# Altium footprint library QFN-56(7.0X7.0).PcbLib: 1 footprints
Each footprint in its own frame and in the unit in brackets; x right, y up, seen from the top. Pads: shape width x height; smd on the part's side, far side on the other; paste and mask are expansions set on the pad; w line width, h text height; cw(c..) or ccw(c..) is an arc to the next point about the centre after c.
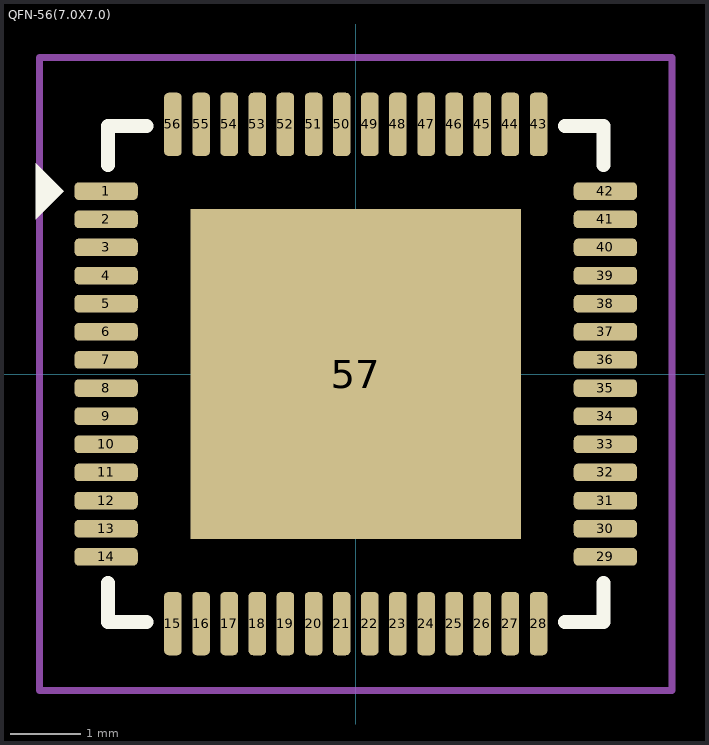
[diagram p0: the footprint, top view; thin cyan lines are the x and y axes]

## QFN-56(7.0X7.0) [mm]
pads (57):
  rrect50% 0.9x0.25 smd: 1(-3.55,2.6) 2(-3.55,2.2) 3(-3.55,1.8) 4(-3.55,1.4) 5(-3.55,1) 6(-3.55,0.6) 7(-3.55,0.2) 8(-3.55,-0.2) 9(-3.55,-0.6) 10(-3.55,-1) 11(-3.55,-1.4) 12(-3.55,-1.8) 13(-3.55,-2.2) 14(-3.55,-2.6) 29(3.55,-2.6) 30(3.55,-2.2) 31(3.55,-1.8) 32(3.55,-1.4) 33(3.55,-1) 34(3.55,-0.6) 35(3.55,-0.2) 36(3.55,0.2) 37(3.55,0.6) 38(3.55,1) 39(3.55,1.4) 40(3.55,1.8) 41(3.55,2.2) 42(3.55,2.6)
  rrect50% 0.25x0.9 smd: 15(-2.6,-3.55) 16(-2.2,-3.55) 17(-1.8,-3.55) 18(-1.4,-3.55) 19(-1,-3.55) 20(-0.6,-3.55) 21(-0.2,-3.55) 22(0.2,-3.55) 23(0.6,-3.55) 24(1,-3.55) 25(1.4,-3.55) 26(1.8,-3.55) 27(2.2,-3.55) 28(2.6,-3.55) 43(2.6,3.55) 44(2.2,3.55) 45(1.8,3.55) 46(1.4,3.55) 47(1,3.55) 48(0.6,3.55) 49(0.2,3.55) 50(-0.2,3.55) 51(-0.6,3.55) 52(-1,3.55) 53(-1.4,3.55) 54(-1.8,3.55) 55(-2.2,3.55) 56(-2.6,3.55)
  rect 4.7x4.7 smd paste-5: 57(0,0)
Top Overlay:
  region: -4.55,2.2 -4.55,3 -4.15,2.6
  lines w0.2: -3.525,-2.975 -3.525,-3.525 -2.975,-3.525 ; -3.525,2.975 -3.525,3.525 -2.975,3.525 ; 2.975,-3.525 3.525,-3.525 3.525,-2.975 ; 2.975,3.525 3.525,3.525 3.525,2.975
Top Paste:
  region: -0.825,0.825 -0.825,1.525 -1.525,1.525 -1.525,0.825
  region: 0.825,-0.825 0.825,-1.525 1.525,-1.525 1.525,-0.825
  region: -0.825,0.35 -1.525,0.35 -1.525,-0.35 -0.825,-0.35
  region: -0.825,-0.825 -1.525,-0.825 -1.525,-1.525 -0.825,-1.525
  region: 0.35,-0.825 -0.35,-0.825 -0.35,-1.525 0.35,-1.525
  rectangle: 0.825,-0.35 1.525,0.35
  rectangle: 0.825,0.825 1.525,1.525
  rectangle: -0.35,0.825 0.35,1.525
  rectangle: -0.35,-0.35 0.35,0.35
Top Courtyard:
  lines w0.1: -4.5,-4.5 -4.5,4.5 4.5,4.5 4.5,-4.5 -4.5,-4.5
3D body "QFN40P700X700X100_HS-57N.step": height 1, standoff 0, extent -3.51,-3.51 3.51,3.51